# Altium schematic symbol library 2021-06-29_10-04-25.SchLib: 2 symbols
Pins are listed as number, name and electrical type; pins without a type are passive.

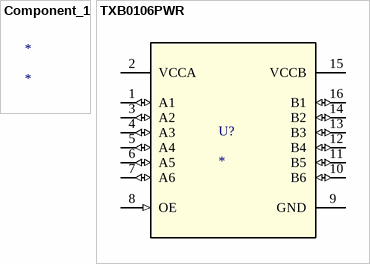
[diagram p0: symbols Component_1 to TXB0106PWR]

## Component_1
designator *

## TXB0106PWR
designator U?
No Description Available; PartNumber: TXB0106PWR; Manufacturer: Texas Instruments; CompType: IC; PIN_COUNT: 16; PackageReference: PW0016A; MountType: SMT; RoHS: Y; RefDes: RefDes; Type: DEV; Value: Value; Copyright: Copyright (C) 2021 Accelerated Designs. All rights reserved
footprint PW0016A_N
pins: 1 A1 (io), 2 VCCA (power), 3 A2 (io), 4 A3 (io), 5 A4 (io), 6 A5 (io), 7 A6 (io), 8 OE (in), 9 GND (power), 10 B6 (io), 11 B5 (io), 12 B4 (io), 13 B3 (io), 14 B2 (io), 15 VCCB (power), 16 B1 (io)